# EAGLE library part DCM3714XD2K13E0YZZ (library HyTechDevices-ltc4421 components)
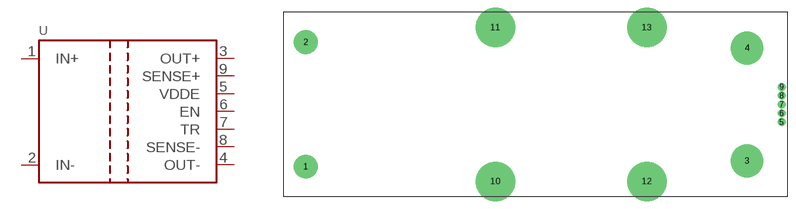
[diagram p34: symbol with the pads of 3714DCM_VIA; footprint 3714DCM_VIA]

Designator prefix -

## DCM3714XD2K13E0YZZ  [3714DCM_VIA]
1  IN+  pwr
2  IN-  pwr
3  OUT+  pwr
4  OUT-  pwr
5  VDDE  pwr
6  EN  in
7  TR  in
8  SENSE-  in
9  SENSE+  in

## Footprint 3714DCM_VIA (pad centres in mm)
DCM3714 Isolated DC-DC Converter in VIA Package Datasheet <http://www.vicorpower.com/documents/datasheets/DCM3714xD2K13E0yzz_ds.pdf>
drill 3.048 pad 4.572: 1 0,-12.027; 2 0,12.027
drill 4.826 pad 6.35: 3 85.09,-10.909; 4 85.09,10.909
drill 1.016 pad 1.422: 5 91.77,-3.416; 6 91.77,-1.714; 7 91.77,-0.013; 8 91.77,1.689; 9 91.77,3.391
drill 4.369 pad 7.62: 10 36.551,-14.872; 11 36.551,14.872; 12 65.761,-14.872; 13 65.761,14.872